# Altium schematic symbol library Interface - Ethernet.SchLib: 2 symbols
Pins are listed as number, name and electrical type; pins without a type are passive.

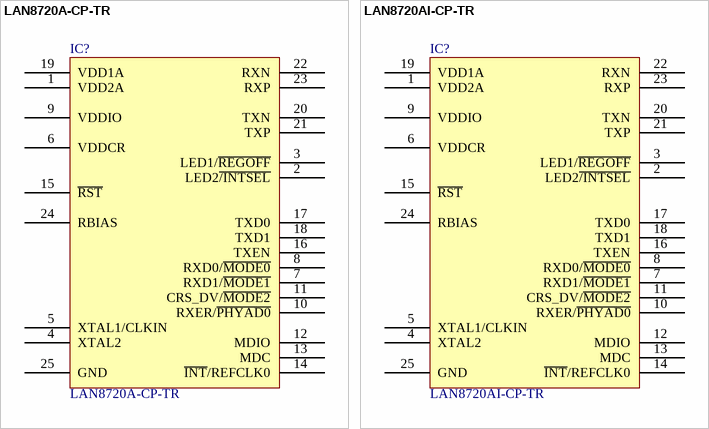
[diagram p0: symbols LAN8720A-CP-TR to LAN8720AI-CP-TR]

## LAN8720A-CP-TR
designator IC?
TXRX ETHERNET 10/100 24VQFN; Manufacturer: Microchip Technology; Protocol: RMII; Number of Drivers/Receivers: 4/4; Duplex: Full; Voltage - Supply: 1.6 V ~ 3.6 V; Part Number: LAN8720A-CP-TR; PartId: 9706; Supplier 1: Digi-Key; Supplier Part Number 1: LAN8720A-CP-TR-ND; ComponentLink1Description: Datasheet; ComponentLink1URL: http://www.microchip.com/mymicrochip/filehandler.aspx?ddocname=en562512; ComponentLink2Description: Digi-Key Listing; ComponentLink2URL: https://www.digikey.com/product-detail/en/microchip-technology/LAN8720A-CP-TR/LAN8720A-CP-TR-ND/3872109; Price: 0.76; Type: Transceiver; Device Package: 24-VFQFN Exposed Pad; Operating Temperature: 0C ~ 85C
footprint SMSC QFN-24 4x4MM
pins: 1 VDD2A, 2 LED2~{/INTSEL}, 3 LED1/~{REGOFF}, 4 XTAL2, 5 XTAL1/CLKIN, 6 VDDCR, 7 RXD1/~{MODE1}, 8 RXD0/~{MODE0}, 9 VDDIO, 10 RXER/~{PHYAD0}, 11 CRS_DV/~{MODE2}, 12 MDIO, 13 MDC, 14 ~{INT}/REFCLK0, 15 ~{RST}, 16 TXEN, 17 TXD0, 18 TXD1, 19 VDD1A, 20 TXN, 21 TXP, 22 RXN, 23 RXP, 24 RBIAS, 25 GND

## LAN8720AI-CP-TR
designator IC?
TXRX ETHERNET 10/100 24VQFN; Manufacturer: Microchip Technology; Protocol: RMII; Number of Drivers/Receivers: 4/4; Duplex: Full; Voltage - Supply: 1.6 V ~ 3.6 V; Part Number: LAN8720AI-CP-TR; PartId: 9707; Supplier 1: Digi-Key; Supplier Part Number 1: LAN8720AI-CP-TR-ND; ComponentLink1Description: Datasheet; ComponentLink1URL: http://www.microchip.com/mymicrochip/filehandler.aspx?ddocname=en562512; ComponentLink2Description: Digi-Key Listing; ComponentLink2URL: https://www.digikey.com/product-detail/en/microchip-technology/LAN8720AI-CP-TR/LAN8720AI-CP-TR-ND/3872110; Price: 0.95; Type: Transceiver; Device Package: 24-VFQFN Exposed Pad; Operating Temperature: -40C ~ 85C
footprint SMSC QFN-24 4x4MM
pins: 1 VDD2A, 2 LED2~{/INTSEL}, 3 LED1/~{REGOFF}, 4 XTAL2, 5 XTAL1/CLKIN, 6 VDDCR, 7 RXD1/~{MODE1}, 8 RXD0/~{MODE0}, 9 VDDIO, 10 RXER/~{PHYAD0}, 11 CRS_DV/~{MODE2}, 12 MDIO, 13 MDC, 14 ~{INT}/REFCLK0, 15 ~{RST}, 16 TXEN, 17 TXD0, 18 TXD1, 19 VDD1A, 20 TXN, 21 TXP, 22 RXN, 23 RXP, 24 RBIAS, 25 GND